# Altium schematic symbol library aiskylab-05Transistors.SchLib: 5 symbols
Pins are listed as number, name and electrical type; pins without a type are passive.

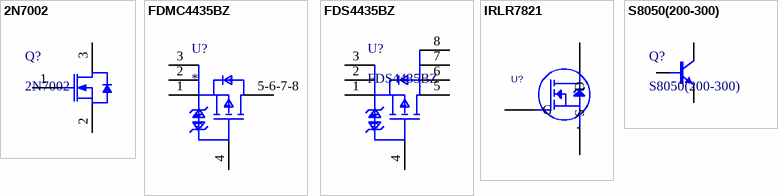
[diagram p0: symbols 2N7002 to S8050(200-300)]

## 2N7002
designator Q?
Trans Mosfet N-ch 60V 0.115A 3-PIN SOT-23 T/r; Manufacturer: Infineon; Rds On Max: 3R; Continuous Drain Current (ID): 300mA; Input Capacitance: 13pF; Max Power Dissipation: 500mW; Element Configuration: Single; Drain to Source Resistance: 4R; Gate to Source Voltage (Vgs): 20V; Turn-Off Delay Time: 5.5ns; Turn-On Delay Time: 3ns; Supplier 1: Digi-Key; Manufacturer Part Number: 2N7002; RoHS: Yes; Category: MOSFETs; Stock 1: 36038; Pricing 1: 1=0.29000, 10=0.23500, 25=0.19720, 100=0.09640, 250=0.09484, 500=0.08038, 1000=0.05585 (USD); Case/Package: SOT-23; Number of Pins: 3; Min Operating Temperature: -55°C; Max Operating Temperature: 150°C; Packaging: Tape and Reel; Drain to Source Voltage (Vdss): 60V; Max Dual Supply Voltage: 60V; Length: 2.9mm; Height: 1mm; Width: 1.3mm; Halogen Free: Halogen Free; ComponentLink1URL: http://uk.rs-online.com/webdocs/1073/0900766b81073ec5.pdf?src-supplier=RSComponents; ComponentLink1Description: http://uk.rs-online.com/webdocs/1073/0900766b81073ec5.pdf?src-supplier=RSComponents; Supplier Part Number 1: 2N7002H6327XTSA2CT-ND
footprint SOT95P245X110-3N (SOT23, 3-Leads, Body 2.90x2.45mm, Pitch 0.95mm, IPC Medium Density)
pins: 1 GATE, 2 SOURCE, 3 DRAIN

## FDMC4435BZ
designator U?
FAIRCHILD SEMICONDUCTOR         FDMC4435BZ             MOSFET Transistor, P Channel, -18 A, -30 V, 0.015 ohm, -10 V, -1.9 V; Manufacturer: ON Semiconductor / Fairchild; Continuous Drain Current (ID): 8.5A; Power Dissipation: 2.3W; Drain to Source Resistance: 20mR; Drain to Source Breakdown Voltage: -30V; Input Capacitance: 2.045nF; Max Power Dissipation: 31W; Drain to Source Voltage (Vdss): 30V; Rise Time: 6ns; Nominal Vgs: -1.9V; Number of Elements: 1; Fall Time: 20ns; Turn-Off Delay Time: 34ns; Turn-On Delay Time: 10ns; Element Configuration: Single; Gate to Source Voltage (Vgs): 25V; Supplier 1: Digi-Key; Manufacturer Part Number: FDMC4435BZ; RoHS: Yes; Category: MOSFETs; Stock 1: 34459; Pricing 1: 1=0.76000, 10=0.66800, 25=0.62760, 100=0.45540, 250=0.43920, 500=0.38052, 1000=0.32384 (USD); Mount: Surface Mount; Number of Pins: 8; Weight: 0.2g; Contact Plating: Gold; Min Operating Temperature: -55°C; Max Operating Temperature: 150°C; Packaging: Tape and Reel; Rds On Max: 20mR; Package Quantity: 1; Threshold Voltage: -1.9V; On-State Resistance: 20MR; Length: 3.3mm; Height: 0.75mm; Width: 3.3mm; Radiation Hardening: No; REACH SVHC: No SVHC; Lead Free: Lead Free; ComponentLink1URL: https://datasheet.ciiva.com/11175/fdmc4435bz-11175600.pdf?src-supplier=Avnet; ComponentLink1Description: https://datasheet.ciiva.com/11175/fdmc4435bz-11175600.pdf?src-supplier=Avnet; ComponentLink2URL: https://datasheet.ciiva.com/28689/1524011-28689235.pdf?src-supplier=Element14; ComponentLink2Description: https://datasheet.ciiva.com/28689/1524011-28689235.pdf?src-supplier=Element14; ComponentLink3URL: https://datasheet.ciiva.com/7967/1837765-7967941.pdf?src-supplier=Element14; ComponentLink3Description: https://datasheet.ciiva.com/7967/1837765-7967941.pdf?src-supplier=Element14; ComponentLink4URL: https://datasheet.ciiva.com/26143/fdmc4435bz-26143397.pdf?src-supplier=Avnet+Europe; ComponentLink4Description: https://datasheet.ciiva.com/26143/fdmc4435bz-26143397.pdf?src-supplier=Avnet+Europe; ComponentLink5URL: https://datasheet.ciiva.com/22655/1837765-22655318.pdf?src-supplier=Element14; ComponentLink5Description: https://datasheet.ciiva.com/22655/1837765-22655318.pdf?src-supplier=Element14; ComponentLink6URL: https://datasheet.ciiva.com/6377/fdmc4435bz-6377064.pdf?src-supplier=Digi-Key; ComponentLink6Description: https://datasheet.ciiva.com/6377/fdmc4435bz-6377064.pdf?src-supplier=Digi-Key; ComponentLink7URL: https://datasheet.ciiva.com/6377/fdmc4435bz-6377067.pdf?src-supplier=Digi-Key; ComponentLink7Description: https://datasheet.ciiva.com/6377/fdmc4435bz-6377067.pdf?src-supplier=Digi-Key; ComponentLink8URL: https://datasheet.ciiva.com/16926/fdmc4435bz-16926461.pdf?src-supplier=Future+Electronics; ComponentLink8Description: https://datasheet.ciiva.com/16926/fdmc4435bz-16926461.pdf?src-supplier=Future+Electronics; Supplier Part Number 1: FDMC4435BZCT-ND
footprint FP-511DQ-MFG
pins: 1 S, 2 S, 3 S, 4 G, 5-6-7-8 D

## FDS4435BZ
designator U?
FAIRCHILD SEMICONDUCTOR   FDS4435BZ   MOSFET Transistor, P Channel, -8.8 A, -30 V, 0.016 ohm, -10 V, -2.1 V; Manufacturer: ON Semiconductor / Fairchild; Continuous Drain Current (ID): 8.8A; Drain to Source Resistance: 16mR; Power Dissipation: 2.5W; Drain to Source Voltage (Vdss): 30V; Gate to Source Voltage (Vgs): 25V; Rise Time: 13ns; Input Capacitance: 1.845nF; Rds On Max: 20mR; Fall Time: 38ns; Turn-Off Delay Time: 68ns; Drain to Source Breakdown Voltage: -30V; Number of Elements: 1; Current Rating: -8.8A; Nominal Vgs: -2.1V; Turn-On Delay Time: 10ns; Element Configuration: Single; Supplier 1: Digi-Key; Manufacturer Part Number: FDS4435BZ; RoHS: Yes; Category: MOSFETs; Stock 1: 1641; Pricing 1: 1=0.60000, 10=0.51400, 25=0.47960, 100=0.35620, 250=0.33840, 500=0.27812, 1000=0.22605 (USD); Mount: Surface Mount; Case/Package: SOIC; Number of Pins: 8; Weight: 0.13g; Contact Plating: Tin,Matte; Min Operating Temperature: -55°C; Max Operating Temperature: 150°C; Packaging: Tape and Reel; Max Power Dissipation: 2.5W; Package Quantity: 1; Voltage Rating (DC): -30V; On-State Resistance: 20MR; Threshold Voltage: -2.1V; Length: 5mm; Height: 1.5mm; Width: 4mm; Radiation Hardening: No; Lead Free: Lead Free; REACH SVHC: No SVHC; ComponentLink1URL: https://datasheet.ciiva.com/15137/getdatasheetpartid-60195-15137259.pdf?src-supplier=Verical; ComponentLink1Description: https://datasheet.ciiva.com/15137/getdatasheetpartid-60195-15137259.pdf?src-supplier=Verical; ComponentLink2URL: https://datasheet.ciiva.com/4442/fds4435bz-106768-4442353.pdf?src-supplier=Mouser; ComponentLink2Description: https://datasheet.ciiva.com/4442/fds4435bz-106768-4442353.pdf?src-supplier=Mouser; ComponentLink3URL: https://datasheet.ciiva.com/34301/892651-34301686.pdf?src-supplier=Jameco; ComponentLink3Description: https://datasheet.ciiva.com/34301/892651-34301686.pdf?src-supplier=Jameco; ComponentLink4URL: https://datasheet.ciiva.com/6382/fds4435bz-6382715.pdf?src-supplier=Digi-Key; ComponentLink4Description: https://datasheet.ciiva.com/6382/fds4435bz-6382715.pdf?src-supplier=Digi-Key; ComponentLink5URL: https://datasheet.ciiva.com/6382/fds4435bz-6382763.pdf?src-supplier=Digi-Key; ComponentLink5Description: https://datasheet.ciiva.com/6382/fds4435bz-6382763.pdf?src-supplier=Digi-Key; ComponentLink6URL: https://datasheet.ciiva.com/22681/673294-22681979.pdf?src-supplier=Element14; ComponentLink6Description: https://datasheet.ciiva.com/22681/673294-22681979.pdf?src-supplier=Element14; ComponentLink7URL: https://datasheet.ciiva.com/11175/fds4435bz-11175181.pdf?src-supplier=Avnet; ComponentLink7Description: https://datasheet.ciiva.com/11175/fds4435bz-11175181.pdf?src-supplier=Avnet; ComponentLink8URL: https://datasheet.ciiva.com/26144/fds4435bz-26144093.pdf?src-supplier=Avnet+Europe; ComponentLink8Description: https://datasheet.ciiva.com/26144/fds4435bz-26144093.pdf?src-supplier=Avnet+Europe; ComponentLink9URL: https://datasheet.ciiva.com/16779/fds4435bz-16779423.pdf?src-supplier=Future+Electronics; ComponentLink9Description: https://datasheet.ciiva.com/16779/fds4435bz-16779423.pdf?src-supplier=Future+Electronics; ComponentLink10URL: https://datasheet.ciiva.com/6382/fds4435bz-6382759.pdf?src-supplier=Digi-Key; ComponentLink10Description: https://datasheet.ciiva.com/6382/fds4435bz-6382759.pdf?src-supplier=Digi-Key; Supplier Part Number 1: FDS4435BZCT-ND
footprint SOP127P600X175-8N (SOP, 8-Leads, Body 4.90x3.90mm, Pitch 1.27mm, IPC Medium Density)
pins: 1 S, 2 S, 3 S, 4 G, 5 D, 6 D, 7 D, 8 D

## IRLR7821
designator U?  (value not drawn)
N沟道MOS FET; PCB DECAL: TO-252AA; value: IRLR7821
footprint TO-252AA
pins: 1 G, 2 D, 3 S

## S8050(200-300)
designator Q?
贴片三极管; SuplierNumber: C2150; Datasheet: https://item.szlcsc.com/2507.html
footprint SOT-23-3
pins: 1 B, 2 C, 3 E